# Altium footprint library Adams Altium Library.PcbLib: 250 footprints (part 11 of 16)
Each footprint in its own frame and in the unit in brackets; x right, y up, seen from the top. Pads: shape width x height; smd on the part's side, far side on the other; paste and mask are expansions set on the pad; w line width, h text height; cw(c..) or ccw(c..) is an arc to the next point about the centre after c.
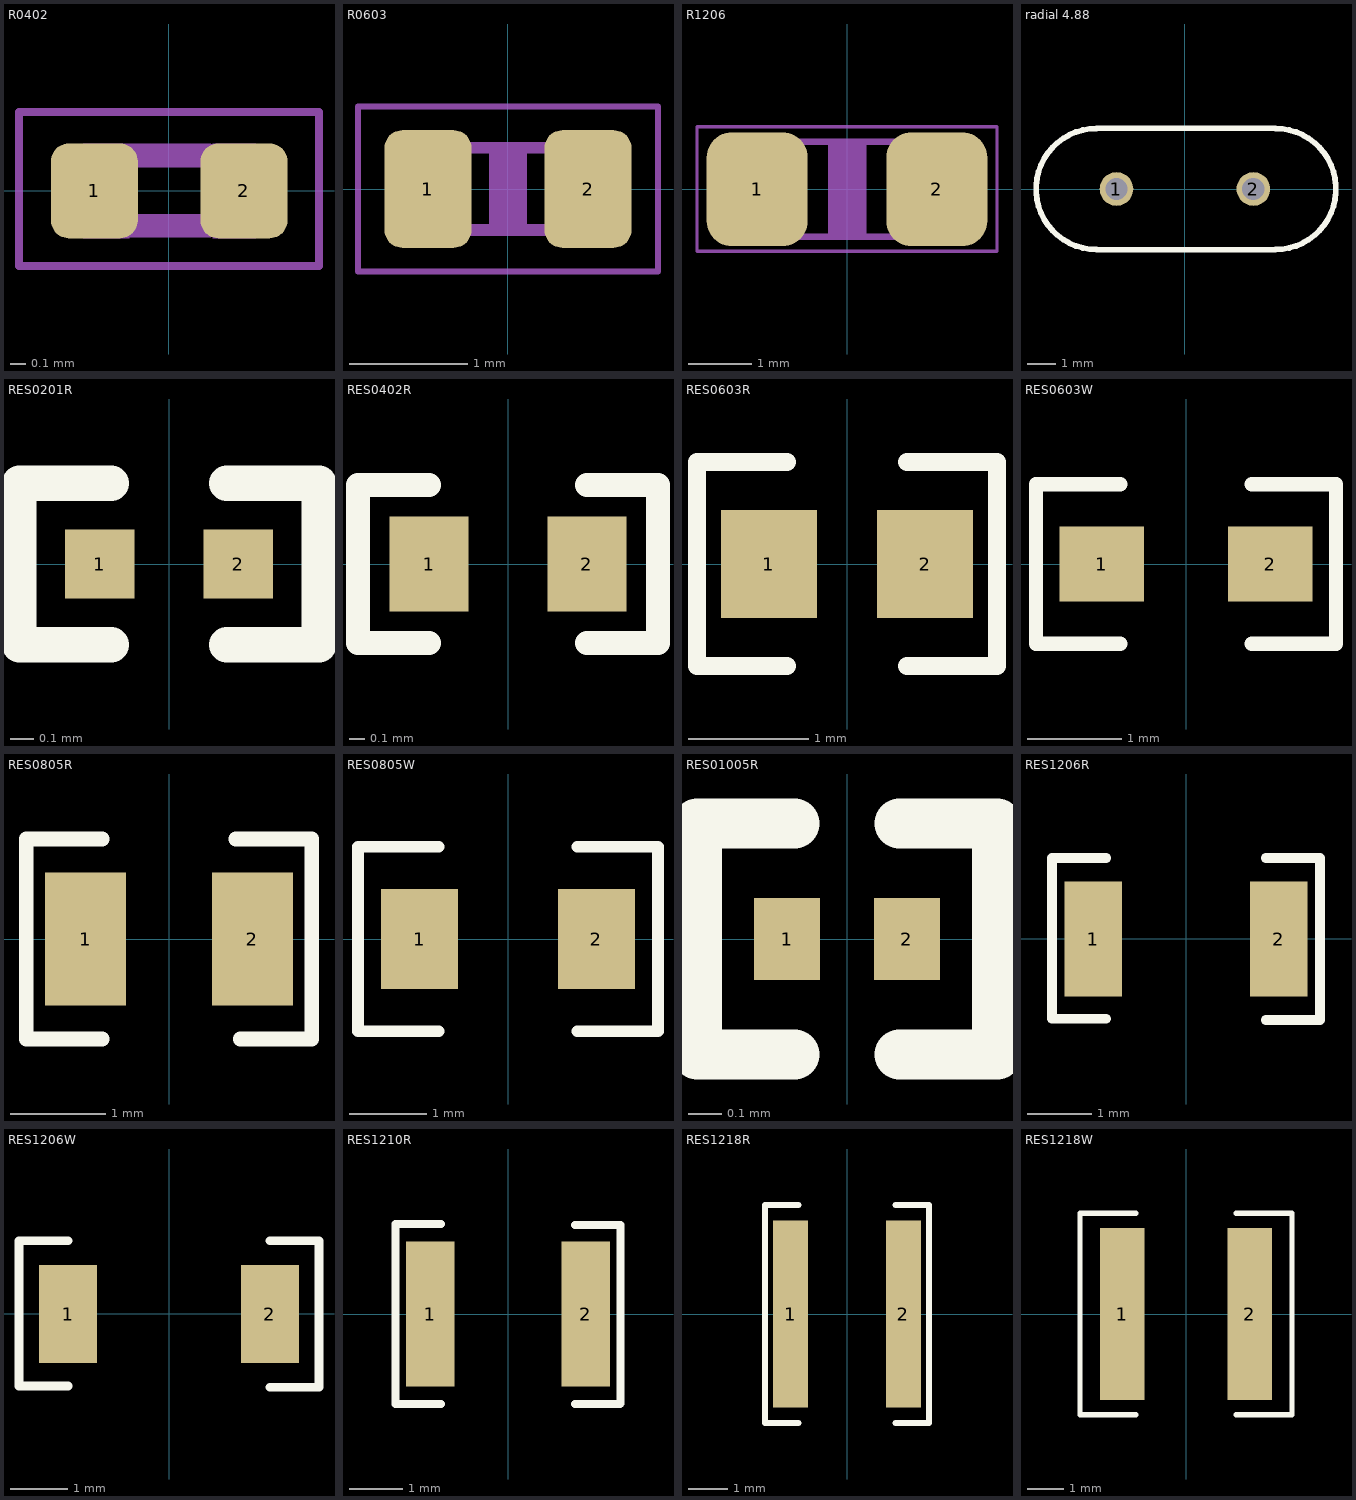
[diagram p10: the footprints below, top view; thin cyan lines are the x and y axes]

## R0402 [mil]
pads (2):
  rrect40% 22x24 smd: 1(-18.9,0) 2(19,0)
Mechanical 16:
  rectangle: -21.81,-12 -10,12
  rectangle: 11,-12 22,12
  lines w2: -37.99,-19.02 38,-19.02 38,20 -37.99,20 -37.99,-19.02
  lines w6: -9.65,-8.82 10,-8.82 ; -9.65,9 10,9
3D body: height 13.78, standoff 0, extent -20,-10 20,10

## R0603 [mm]
pads (2):
  rrect40% 0.74x1 smd: 1(-0.68,0) 2(0.68,0)
Mechanical 6:
  rectangle: -0.16,-0.3 0.16,0.3
Mechanical 16:
  rectangle: 0.45,-0.4 0.8,0.4
  rectangle: -0.8,-0.4 -0.45,0.4
  lines w0.051: -1.275,-0.7 -1.275,0.7 1.275,0.7 1.275,-0.7 -1.275,-0.7
  lines w0.1: -0.45,0.35 0.45,0.35
  lines w0.102: -0.45,-0.35 0.45,-0.35
3D body: height 0.8, standoff 0, extent -0.8,-0.4 0.8,0.4

## R1206 [mil]
pads (2):
  rrect50% 63x71 smd: 1(-55.98,0) 2(56,0)
Mechanical 6:
  rectangle: -11.81,-27.56 12,28
Mechanical 16:
  rectangle: -61.02,-31.5 -32.02,31.5
  rectangle: 32.02,-31.5 61.02,31.5
  lines w2: -93.5,-38.7 93.5,-38.7 93.5,39 -93.5,39 -93.5,-38.7
  lines w3.94: -40.35,29.53 35.65,29.53 ; -34.66,-29.53 41.34,-29.53
3D body: height 23.62, standoff 0, extent -61.02,-31.5 61.02,31.5

## radial 4.88 [mm]
pads (2):
  round 1.2 hole 0.8: 1(-2.44,0) 2(2.44,0)
Top Overlay:
  lines w0.2: -3.15,2.159 3.226,2.159 ; -3.124,-2.159 3.226,-2.159
  lines w0.203: -3.15,-2.159 cw(c-3.15,0) -3.15,2.159 ; 3.226,-2.159 ccw(c3.226,0) 3.226,2.159

## RES0201R [mm] "resistor 0201 reflow soldering"
pads (2):
  rect 0.3x0.3 smd paste+0 mask+0.075: 1(-0.3,0) 2(0.3,0)
Top Overlay:
  lines w0.152: -0.25,-0.35 -0.65,-0.35 -0.65,0.35 -0.25,0.35 ; 0.25,-0.35 0.65,-0.35 0.65,0.35 0.25,0.35
3D body: height 0.3, standoff 0, extent -0.3,-0.15 0.3,0.15

## RES0402R [mm] "resistor 0402 reflow soldering"
pads (2):
  rect 0.5x0.6 smd: 1(-0.5,0) 2(0.5,0)
Top Overlay:
  lines w0.152: -0.5,-0.5 -0.95,-0.5 -0.95,0.5 -0.5,0.5 ; 0.5,-0.5 0.95,-0.5 0.95,0.5 0.5,0.5
3D body: height 0.3, standoff 0, extent -0.5,-0.25 0.5,0.25

## RES0603R [mm] "resistor 0603 reflow soldering"
pads (2):
  rect 0.8x0.9 smd: 1(-0.65,0) 2(0.65,0)
Top Overlay:
  lines w0.152: -0.5,-0.85 -1.25,-0.85 -1.25,0.85 -0.5,0.85 ; 0.5,-0.85 1.25,-0.85 1.25,0.85 0.5,0.85
3D body: height 0.45, standoff 0, extent -0.8,-0.4 0.8,0.4

## RES0603W [mm] "resistor 0603 wave soldering"
pads (2):
  rect 0.9x0.8 smd: 1(-0.9,0) 2(0.9,0)
Top Overlay:
  lines w0.152: -0.7,-0.85 -1.6,-0.85 -1.6,0.85 -0.7,0.85 ; 0.7,-0.85 1.6,-0.85 1.6,0.85 0.7,0.85
3D body: height 0.45, standoff 0, extent -0.8,-0.4 0.8,0.4

## RES0805R [mm] "resistor 0805 reflow soldering"
pads (2):
  rect 0.85x1.4 smd: 1(-0.875,0) 2(0.875,0)
Top Overlay:
  lines w0.152: -0.7,-1.05 -1.5,-1.05 -1.5,1.05 -0.7,1.05 ; 0.7,1.05 1.5,1.05 1.5,-1.05 0.75,-1.05
3D body: height 0.5, standoff 0, extent -1,-0.625 1,0.625

## RES0805W [mm] "resistor 0805 wave soldering"
pads (2):
  rect 1x1.3 smd: 1(-1.15,0) 2(1.15,0)
Top Overlay:
  lines w0.152: -0.9,-1.2 -1.95,-1.2 -1.95,1.2 -0.9,1.2 ; 0.9,-1.2 1.95,-1.2 1.95,1.2 0.9,1.2
3D body: height 0.5, standoff 0, extent -1,-0.625 1,0.625

## RES01005R [mm] "resistor 01005 reflow soldering"
pads (2):
  rect 0.2x0.25 smd paste+0 mask+0.05: 1(-0.182,0) 2(0.182,0)
Top Overlay:
  lines w0.152: -0.16,-0.35 -0.455,-0.35 -0.455,0.35 -0.16,0.35 ; 0.16,-0.35 0.455,-0.35 0.455,0.35 0.16,0.35
3D body: height 0.13, standoff 0, extent 0.1,-0.1 0.2,0.1
3D body: height 0.13, standoff 0, extent -0.1,-0.1 0.1,0.1
3D body: height 0.13, standoff 0, extent -0.2,-0.1 -0.1,0.1

## RES1206R [mm] "resistor 1206 reflow soldering"
pads (2):
  rect 0.9x1.8 smd: 1(-1.45,0) 2(1.45,0)
Top Overlay:
  lines w0.152: -1.25,-1.25 -2.1,-1.25 -2.1,1.27 -1.25,1.27 ; 1.25,-1.27 2.1,-1.27 2.1,1.27 1.25,1.27
3D body: height 0.55, standoff 0, extent -1.5,-0.775 1.6,0.777

## RES1206W [mm] "resistor 1206 wave soldering"
pads (2):
  rect 1x1.7 smd: 1(-1.75,0) 2(1.75,0)
Top Overlay:
  lines w0.152: -1.75,-1.25 -2.6,-1.25 -2.6,1.27 -1.75,1.27 ; 1.75,-1.27 2.6,-1.27 2.6,1.27 1.75,1.27
3D body: height 0.55, standoff 0, extent -1.55,-0.775 1.55,0.777

## RES1210R [mm] "resistor 1210 reflow soldering"
pads (2):
  rect 0.9x2.7 smd: 1(-1.45,0) 2(1.45,0)
Top Overlay:
  lines w0.152: -1.25,-1.68 -2.1,-1.68 -2.1,1.68 -1.25,1.68 ; 1.25,-1.68 2.09,-1.68 2.1,-1.67 2.1,1.66 1.25,1.66

## RES1218R [mm] "resistor 1218 reflow soldering"
pads (2):
  rect 0.9x4.8 smd: 1(-1.45,0) 2(1.45,0)
Top Overlay:
  lines w0.152: -1.25,-2.8 -2.1,-2.8 -2.1,2.8 -1.25,2.8 ; 1.25,-2.8 2.1,-2.8 2.1,2.8 1.25,2.8
3D body: height 0.55, standoff 0, extent -1.55,-2.3 1.55,2.306

## RES1218W [mm] "resistor 1218 wave soldering"
pads (2):
  rect 1.25x4.8 smd: 1(-1.775,0) 2(1.775,0)
Top Overlay:
  lines w0.152: -1.4,-2.8 -2.95,-2.8 -2.95,2.8 -1.4,2.8 ; 1.4,-2.8 2.95,-2.8 2.95,2.8 1.4,2.8
3D body: height 0.55, standoff 0, extent -1.55,-2.302 1.55,2.304